# Altium footprint library AT25DF041B-MAHN-T.PcbLib: 1 footprints
Each footprint in its own frame and in the unit in brackets; x right, y up, seen from the top. Pads: shape width x height; smd on the part's side, far side on the other; paste and mask are expansions set on the pad; w line width, h text height; cw(c..) or ccw(c..) is an arc to the next point about the centre after c.
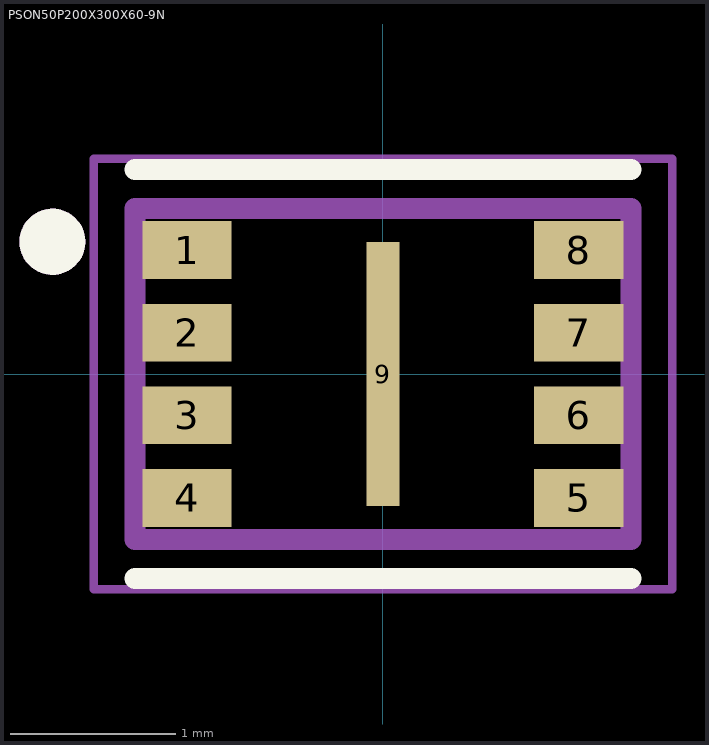
[diagram p0: the footprint, top view; thin cyan lines are the x and y axes]

## PSON50P200X300X60-9N [mm]
pads (9):
  rect 0.54x0.35 smd: 1(-1.185,0.75) 2(-1.185,0.25) 3(-1.185,-0.25) 4(-1.185,-0.75) 5(1.185,-0.75) 6(1.185,-0.25) 7(1.185,0.25) 8(1.185,0.75)
  rect 0.2x1.6 smd paste-2: 9(0,0)
Top Overlay:
  circle w0.2: c-2,0.8 r0.1
  lines w0.127: -1.5,-1.238 1.5,-1.238 ; -1.5,1.238 1.5,1.238
Mechanical 13:
  circle w0.2: c-2,0.8 r0.1
  lines w0.127: -1.5,-1 -1.5,1 1.5,1 1.5,-1 -1.5,-1
Mechanical 15:
  lines w0.05: -1.75,-1.302 -1.75,1.302 1.75,1.302 1.75,-1.302 -1.75,-1.302
3D body "step_temp.STEP": height 0.6, standoff 0, extent -1.5,-1 1.5,1